# EAGLE library part 65SC22 (library Custom)
California Micro Devices Version
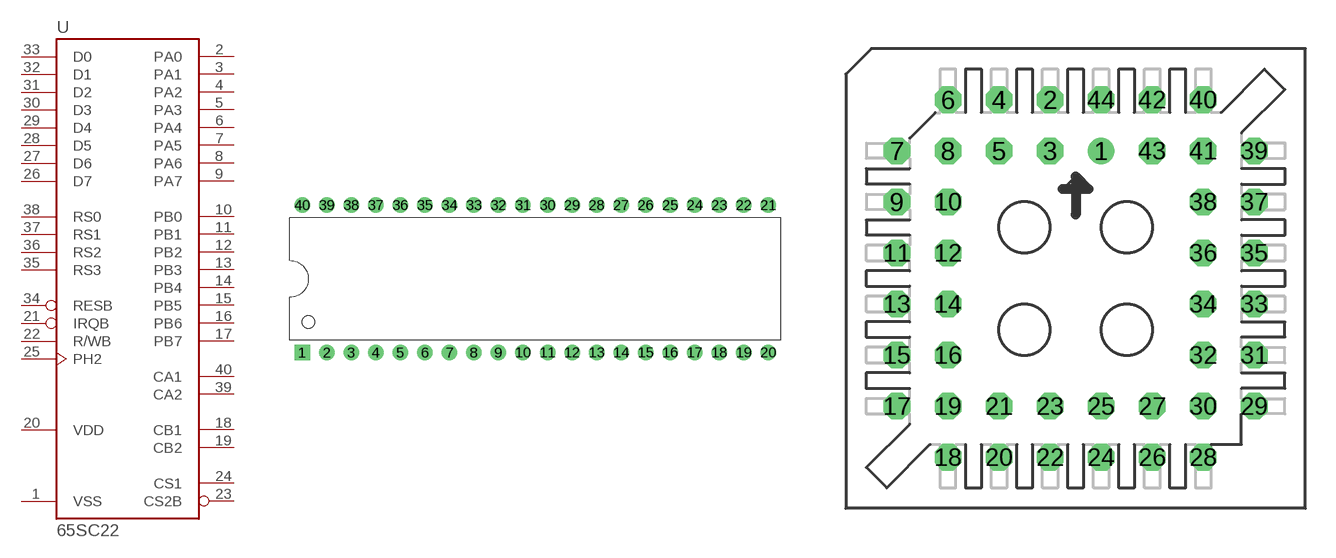
[diagram p7: symbol with the pads of DIP-40; footprints DIP-40, PLCC44_S]

Designator prefix U

## 65SC22  [DIP-40]
1  VSS  sup
2  PA0
3  PA1
4  PA2
5  PA3
6  PA4
7  PA5
8  PA6
9  PA7
10  PB0
11  PB1
12  PB2
13  PB3
14  PB4
15  PB5
16  PB6
17  PB7
18  CB1
19  CB2
20  VDD  pwr
21  IRQB  out
22  R/WB  in
23  CS2B  in
24  CS1  in
25  PH2  in
26  D7
27  D6
28  D5
29  D4
30  D3
31  D2
32  D1
33  D0
34  RESB  in
35  RS3  in
36  RS2  in
37  RS1  in
38  RS0  in
39  CA2
40  CA1

## 65SC22PLCC_44S  [PLCC44_S]
1  VSS  sup
2  PA0
3  PA1
4  PA2
5  PA3
6  PA4
7  PA5
8  PA6
9  PA7
10  PB0
12  PB1
13  PB2
14  PB3
15  PB4
16  PB5
17  PB6
18  PB7
19  CB1
20  CB2
21  VDD  pwr
23  IRQB  out
24  R/WB  in
25  CS2B  in
26  CS1  in
27  PH2  in
28  D7
29  D6
30  D5
31  D4
32  D3
34  D2
35  D1
36  D0
37  RESB  in
39  RS3  in
40  RS2  in
41  RS1  in
42  RS0  in
43  CA2
44  CA1

## 65SC22TQFP44  [TQFP44]
1  PA5
2  PA6
3  PA7
4  PB0
6  PB1
7  PB2
8  PB3
9  PB4
10  PB5
11  PB6
12  PB7
13  CB1
14  CB2
15  VDD  pwr
17  IRQB  out
18  R/WB  in
19  CS2B  in
20  CS1  in
21  PH2  in
22  D7
23  D6
24  D5
25  D4
26  D3
28  D2
29  D1
30  D0
31  RESB  in
33  RS3  in
34  RS2  in
35  RS1  in
36  RS0  in
37  CA2
38  CA1
39  VSS  sup
40  PA0
41  PA1
42  PA2
43  PA3
44  PA4

## 65SC22PLCC44  [PLCC44]
Pads as for PLCC44_S

## Footprint DIP-40 (pad centres in mm)
40-Pin DIP, 0.6" Wide
drill 0.889 pad 1.6 square: 1 -22.86,-7.62
drill 0.889 pad 1.6: 2 -20.32,-7.62; 3 -17.78,-7.62; 4 -15.24,-7.62; 5 -12.7,-7.62; 6 -10.16,-7.62; 7 -7.62,-7.62; 8 -5.08,-7.62; 9 -2.54,-7.62; 10 0,-7.62; 11 2.54,-7.62; 12 5.08,-7.62; 13 7.62,-7.62; 14 10.16,-7.62; 15 12.7,-7.62; 16 15.24,-7.62; 17 17.78,-7.62; 18 20.32,-7.62; 19 22.86,-7.62; 20 25.4,-7.62; 21 25.4,7.62; 22 22.86,7.62; 23 20.32,7.62; 24 17.78,7.62; 25 15.24,7.62; 26 12.7,7.62; 27 10.16,7.62; 28 7.62,7.62; 29 5.08,7.62; 30 2.54,7.62; 31 0,7.62; 32 -2.54,7.62; 33 -5.08,7.62; 34 -7.62,7.62; 35 -10.16,7.62; 36 -12.7,7.62; 37 -15.24,7.62; 38 -17.78,7.62; 39 -20.32,7.62; 40 -22.86,7.62

## Footprint PLCC44_S (pad centres in mm)
drill 0.813: 1 1.27,5.08
drill 0.813 octagon: 2 -1.27,7.62; 3 -1.27,5.08; 4 -3.81,7.62; 5 -3.81,5.08; 6 -6.35,7.62; 7 -8.89,5.08; 8 -6.35,5.08; 9 -8.89,2.54; 10 -6.35,2.54; 11 -8.89,0; 12 -6.35,0; 13 -8.89,-2.54; 14 -6.35,-2.54; 15 -8.89,-5.08; 16 -6.35,-5.08; 17 -8.89,-7.62; 18 -6.35,-10.16; 19 -6.35,-7.62; 20 -3.81,-10.16; 21 -3.81,-7.62; 22 -1.27,-10.16; 23 -1.27,-7.62; 24 1.27,-10.16; 25 1.27,-7.62; 26 3.81,-10.16; 27 3.81,-7.62; 28 6.35,-10.16; 29 8.89,-7.62; 30 6.35,-7.62; 31 8.89,-5.08; 32 6.35,-5.08; 33 8.89,-2.54; 34 6.35,-2.54; 35 8.89,0; 36 6.35,0; 37 8.89,2.54; 38 6.35,2.54; 39 8.89,5.08; 40 6.35,7.62; 41 6.35,5.08; 42 3.81,7.62; 43 3.81,5.08; 44 1.27,7.62

## Footprint TQFP44 (pad centres in mm)
smd 1.5 x 0.5: 1 -5.8,4; 2 -5.8,3.2; 3 -5.8,2.4; 4 -5.8,1.6; 5 -5.8,0.8; 6 -5.8,0; 7 -5.8,-0.8; 8 -5.8,-1.6; 9 -5.8,-2.4; 10 -5.8,-3.2; 11 -5.8,-4; 23 5.8,-4; 24 5.8,-3.2; 25 5.8,-2.4; 26 5.8,-1.6; 27 5.8,-0.8; 28 5.8,0; 29 5.8,0.8; 30 5.8,1.6; 31 5.8,2.4; 32 5.8,3.2; 33 5.8,4
smd 0.5 x 1.5: 12 -4,-5.8; 13 -3.2,-5.8; 14 -2.4,-5.8; 15 -1.6,-5.8; 16 -0.8,-5.8; 17 0,-5.8; 18 0.8,-5.8; 19 1.6,-5.8; 20 2.4,-5.8; 21 3.2,-5.8; 22 4,-5.8; 34 4,5.8; 35 3.2,5.8; 36 2.4,5.8; 37 1.6,5.8; 38 0.8,5.8; 39 0,5.8; 40 -0.8,5.8; 41 -1.6,5.8; 42 -2.4,5.8; 43 -3.2,5.8; 44 -4,5.8

## Footprint PLCC44 (pad centres in mm)
smd 0.6 x 2.2: 1 0,8.1; 2 -1.27,8.1; 3 -2.54,8.1; 4 -3.81,8.1; 5 -5.08,8.1; 6 -6.35,8.1; 18 -6.35,-8.1; 19 -5.08,-8.1; 20 -3.81,-8.1; 21 -2.54,-8.1; 22 -1.27,-8.1; 23 0,-8.1; 24 1.27,-8.1; 25 2.54,-8.1; 26 3.81,-8.1; 27 5.08,-8.1; 28 6.35,-8.1; 40 6.35,8.1; 41 5.08,8.1; 42 3.81,8.1; 43 2.54,8.1; 44 1.27,8.1
smd 2.2 x 0.6: 7 -8.1,6.35; 8 -8.1,5.08; 9 -8.1,3.81; 10 -8.1,2.54; 11 -8.1,1.27; 12 -8.1,0; 13 -8.1,-1.27; 14 -8.1,-2.54; 15 -8.1,-3.81; 16 -8.1,-5.08; 17 -8.1,-6.35; 29 8.1,-6.35; 30 8.1,-5.08; 31 8.1,-3.81; 32 8.1,-2.54; 33 8.1,-1.27; 34 8.1,0; 35 8.1,1.27; 36 8.1,2.54; 37 8.1,3.81; 38 8.1,5.08; 39 8.1,6.35